# Altium footprint library ASV.PcbLib: 1 footprints
Each footprint in its own frame and in the unit in brackets; x right, y up, seen from the top. Pads: shape width x height; smd on the part's side, far side on the other; paste and mask are expansions set on the pad; w line width, h text height; cw(c..) or ccw(c..) is an arc to the next point about the centre after c.
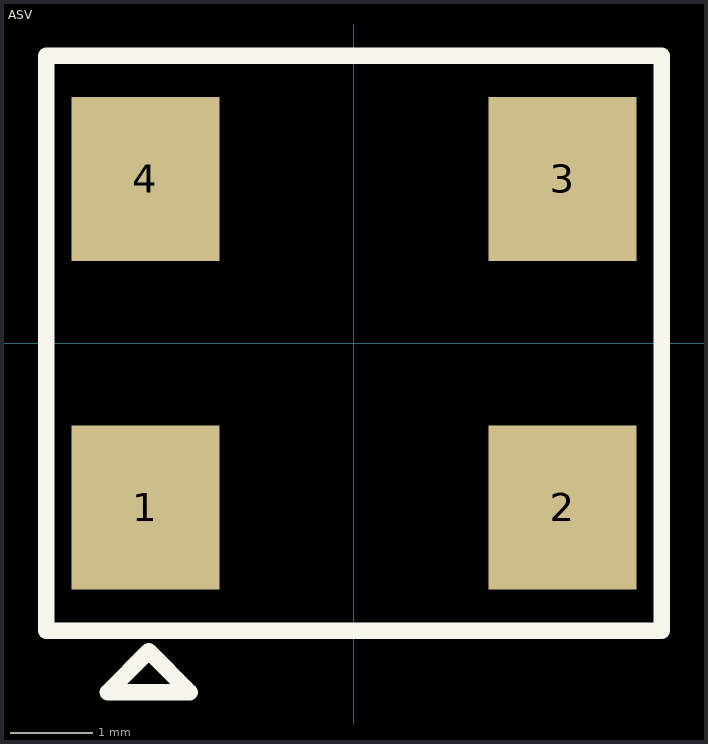
[diagram p0: the footprint, top view; thin cyan lines are the x and y axes]

## ASV [mm]
pads (4):
  rect 1.8x2 smd: 1(-2.54,-2) 2(2.54,-2) 3(2.54,2) 4(-2.54,2)
Top Overlay:
  lines w0.2: -3.75,-3.5 -3.75,3.5 3.75,3.5 3.75,-3.5 -3.75,-3.5 ; -3,-4.25 -2,-4.25 -2.5,-3.75 -3,-4.25
3D body: height 1.8, standoff 1.7, extent -3,-1.75 3.001,-1.249
3D body: height 1.8, standoff 1.7, extent -3,-1.25 3.001,1.751
3D body: height 1.7, standoff 0, extent -3.501,-2.501 3.56,2.501